# Altium schematic symbol library CSNL1206FT3L00.SchLib: 2 symbols
Pins are listed as number, name and electrical type; pins without a type are passive.

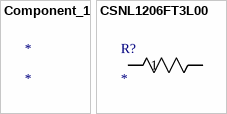
[diagram p0: symbols Component_1 to CSNL1206FT3L00]

## Component_1
designator *

## CSNL1206FT3L00
designator R?
No Description Available; Mfr_Name: Stackpole International
footprint STA_CSNL1206_STP
pins: 1, 2